# Altium footprint library Connector.PCBLIB: 82 footprints (part 4 of 6)
Each footprint in its own frame and in the unit in brackets; x right, y up, seen from the top. Pads: shape width x height; smd on the part's side, far side on the other; paste and mask are expansions set on the pad; w line width, h text height; cw(c..) or ccw(c..) is an arc to the next point about the centre after c.
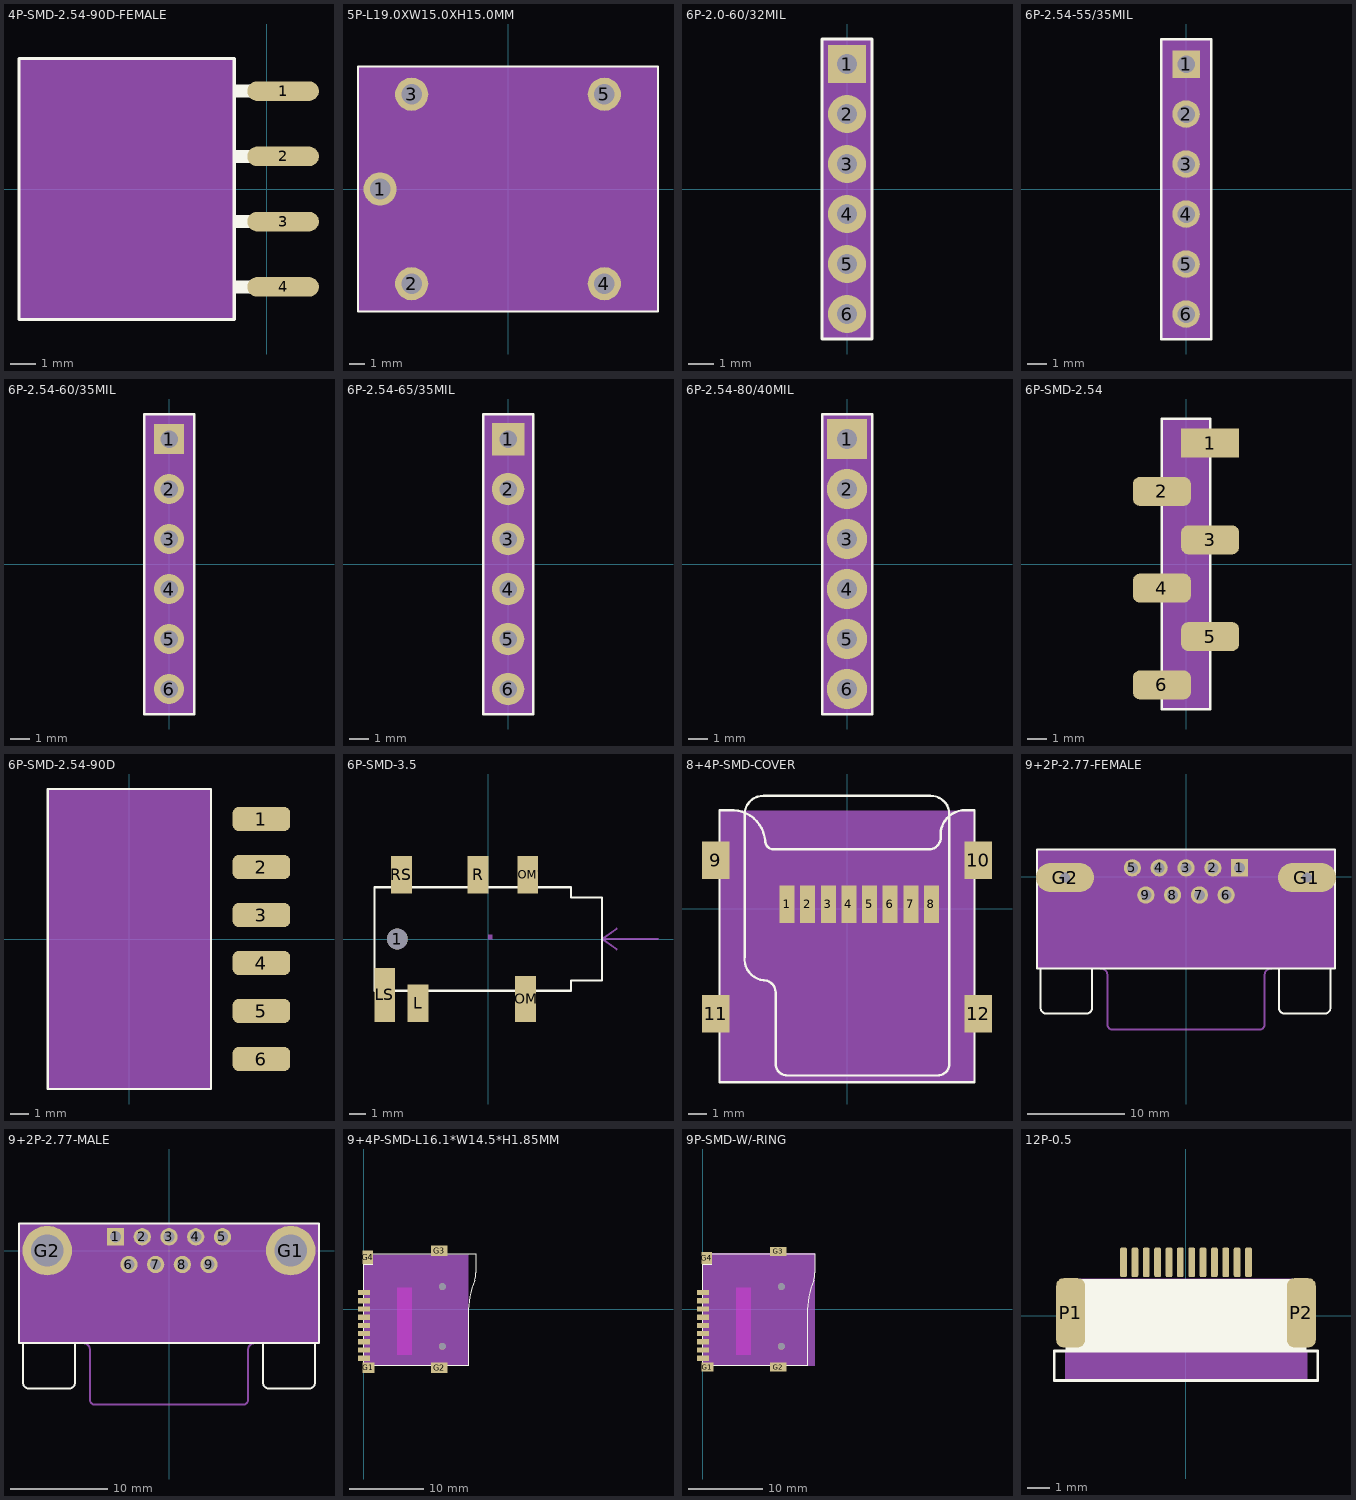
[diagram p3: the footprints below, top view; thin cyan lines are the x and y axes]

## 4P-SMD-2.54-90D-FEMALE [mil]
pads (4):
  rrect100% 110x30 smd: 1(25,150) 2(25,50) 3(25,-50) 4(25,-150)
Top Overlay:
  rectangle: -50,140 20,160
  rectangle: -50,40 20,60
  rectangle: -50,-60 20,-40
  rectangle: -50,-160 20,-140
  lines w5: -380,-200 -50,-200 -50,200 -380,200 -380,-200
Mechanical 27:
  rectangle: -380,-200 -50,200

## 5P-L19.0XW15.0XH15.0MM [mm]
pads (5):
  round 2.1 hole 1.3: 1(-8.1,0) 2(-6.1,-6) 3(-6.1,6) 4(6.1,-6) 5(6.1,6)
Top Overlay:
  lines w0.127: -9.5,-7.75 9.5,-7.75 9.5,7.75 -9.5,7.75 -9.5,-7.75
Mechanical 27:
  rectangle: -9.5,-7.75 9.5,7.75

## 6P-2.0-60/32MIL [mil]
pads (6):
  rect 60x60 hole 32: 1(0,196.85)
  round 60 hole 32: 2(0,118.11) 3(0,39.37) 4(0,-39.37) 5(0,-118.11) 6(0,-196.85)
Top Overlay:
  lines w5: -39.37,-236.18 39.37,-236.18 39.37,236.22 -39.37,236.22 -39.37,-236.18
Mechanical 27:
  rectangle: -40,-235 40,235

## 6P-2.54-55/35MIL [mil]
pads (6):
  rect 55x55 hole 35: 1(0,250)
  round 55 hole 35: 2(0,150) 3(0,50) 4(0,-50) 5(0,-150) 6(0,-250)
Top Overlay:
  lines w5: -50,-300 50,-300 50,300 -50,300 -50,-300
Mechanical 27:
  rectangle: -50,-300 50,300
  lines w0: -50,-300 50,-300 50,300 -50,300 -50,-300

## 6P-2.54-60/35MIL [mil]
pads (6):
  rect 60x60 hole 35: 1(0,250)
  round 60 hole 35: 2(0,150) 3(0,50) 4(0,-50) 5(0,-150) 6(0,-250)
Top Overlay:
  lines w5: -50,-300 50,-300 50,300 -50,300 -50,-300
Mechanical 27:
  rectangle: -50,-300 50,300
  lines w0: -50,-300 50,-300 50,300 -50,300 -50,-300

## 6P-2.54-65/35MIL [mil]
pads (6):
  rect 65x65 hole 35: 1(0,250)
  round 65 hole 35: 2(0,150) 3(0,50) 4(0,-50) 5(0,-150) 6(0,-250)
Top Overlay:
  lines w5: -50,-300 50,-300 50,300 -50,300 -50,-300
Mechanical 27:
  rectangle: -50,-300 50,300
  lines w0: -50,-300 50,-300 50,300 -50,300 -50,-300

## 6P-2.54-80/40MIL [mil]
pads (6):
  rect 80x80 hole 40: 1(0,250)
  round 80 hole 40: 2(0,150) 3(0,50) 4(0,-50) 5(0,-150) 6(0,-250)
Top Overlay:
  lines w5: -50,-300 50,-300 50,300 -50,300 -50,-300
Mechanical 27:
  rectangle: -50,-300 50,300

## 6P-SMD-2.54 [mil]
pads (6):
  rect 120x60 smd: 1(50,250)
  rrect50% 120x60 smd: 2(-50,150) 3(50,50) 4(-50,-50) 5(50,-150) 6(-50,-250)
Top Overlay:
  lines w5: -50,-300 50,-300 50,300 -50,300 -50,-300
Mechanical 27:
  rectangle: -50,-300 50,300

## 6P-SMD-2.54-90D [mil]
pads (6):
  rrect50% 120x50 smd: 1(275,250) 2(275,150) 3(275,50) 4(275,-50) 5(275,-150) 6(275,-250)
Top Overlay:
  lines w5: -170,-312.5 170,-312.5 170,312.5 -170,312.5 -170,-312.5
Mechanical 27:
  rectangle: -169.29,-311.02 169.29,311.02

## 6P-SMD-3.5 [mil]
pads (7):
  round 50 hole 50: 1(-220,0)
  rect 50x90 smd: COM1(95,155) L(-170,-155) R(-25,155) RS(-210,155)
  rect 50x110 smd: COM2(90,-145)
  rect 50x130 smd: LS(-250,-135)
Top Overlay:
  lines w5: -275,-125 -275,125 200,125 200,100 275,100 275,-100 200,-100 200,-125 -275,-125
Mechanical 11:
  region: 0,0 10,0 10,10 0,10
  lines w5: 310,-25 275,0 ; 310,25 275,0 ; 410,0 275,0
  text "The place have a bulge ," at 425,4.25 h54.25
  text "please place it out of board." at 425,-50 h54.25

## 8+4P-SMD-COVER [mil]
pads (12):
  rect 31.5x79.06 smd: 1(-125.92,10) 2(-82.61,10) 3(-39.31,10) 4(4,10) 5(47.31,10) 6(90.61,10) 7(133.92,10) 8(177.23,10)
  rect 57.09x78.74 smd: 9(-275.67,102.36) 10(275.67,102.36) 11(-275.67,-220.41) 12(275.67,-220.41)
Top Overlay:
  lines w5: -267.72,-363.94 267.72,-363.94 267.72,206.88 241.73,206.88 ccw(c247.73,156) 196.85,150 cw(c171.85,150) 171.85,125 -153.94,125 cw(c-153.94,142.91) -171.85,142.91 ccw(c-241.35,137.41) -246.85,206.91 -267.72,206.91 -267.72,-363.94 ; -215,-100 -215,200 cw(c-176.25,198.75) -175,237.5 175,237.5 cw(c176.25,198.75) 215,200 215,-325 cw(c190,-325) 190,-350 -125,-350 cw(c-125,-325) -150,-325 -150,-175 ccw(c-175,-175) -175,-150 cw(c-170,-105) -215,-100
Mechanical 27:
  rectangle: -267.72,-362.54 267.72,206.91

## 9+2P-2.77-FEMALE [mil]
pads (11):
  rect 70x70 hole 45: 1(218.11,35.43)
  round 70 hole 45: 2(109.06,35.43) 3(0,35.43) 4(-109.06,35.43) 5(-218.11,35.43) 6(163.58,-75.2) 7(54.53,-75.2) 8(-54.53,-75.2) 9(-163.58,-75.2)
  oval 236.22x118.11 hole 39.37: G1(492.13,-3.94) G2(-492.13,-3.94)
Top Overlay:
  lines w8: -591.97,-375 -591.97,-533 ccw(c-566.97,-533) -566.97,-558 -406.97,-558 ccw(c-406.97,-533) -381.97,-533 -381.97,-375 ; 378.03,-375 378.03,-533 ccw(c403.03,-533) 403.03,-558 563.03,-558 ccw(c563.03,-533) 588.03,-533 588.03,-375 ; -606.3,-374.02 -606.3,110.24 606.3,110.24 606.3,-374.02 -606.3,-374.02
Mechanical 11:
  lines w5: -515,-90 -500,-75 ; -485,-90 -500,-75 ; 485,-90 500,-75 ; 515,-90 500,-75 ; -500,-75 -500,-225 500,-225 500,-75
  lines w40: -566.93,-3.94 -417.32,-3.94 ; 417.32,-3.94 566.93,-3.94
  text "slot drills with copper" at -275,-215 h54.25
Mechanical 16:
  lines w8: -345,-374.02 cw(c-346.65,-400.67) -320,-402.32 -320,-602.32 ccw(c-300,-602.32) -300,-622.32 300,-622.32 ccw(c300,-602.32) 320,-602.32 320,-402.32 cw(c346.65,-400.67) 345,-374.02
Mechanical 27:
  rectangle: -605,-375 605,110

## 9+2P-2.77-MALE [mil]
pads (11):
  rect 70x70 hole 45: 1(-216,56)
  round 70 hole 45: 2(-108,56) 3(0,56) 4(108,56) 5(216,56) 6(-162,-56) 7(-54,-56) 8(54,-56) 9(162,-56)
  round 200 hole 130: G1(492,0) G2(-492,0)
Top Overlay:
  lines w8: -590,-375 -590,-533 ccw(c-565,-533) -565,-558 -405,-558 ccw(c-405,-533) -380,-533 -380,-375 ; 380,-375 380,-533 ccw(c405,-533) 405,-558 565,-558 ccw(c565,-533) 590,-533 590,-375 ; -606.3,-374.02 -606.3,110.24 606.3,110.24 606.3,-374.02 -606.3,-374.02
Mechanical 16:
  lines w8: -345,-374.02 cw(c-346.65,-400.67) -320,-402.32 -320,-602.32 ccw(c-300,-602.32) -300,-622.32 300,-622.32 ccw(c300,-602.32) 320,-602.32 320,-402.32 cw(c346.65,-400.67) 345,-374.02
Mechanical 27:
  rectangle: -605,-375 605,110

## 9+4P-SMD-L16.1*W14.5*H1.85MM [mm]
pads (15):
  rect 1.6x0.7 smd: 1(0,2.25) 2(0,1.15) 3(0,0.05) 4(0,-1.05) 5(0,-2.15) 6(0,-3.25) 7(0,-4.35) 8(0,-5.45) 9(0,-6.55)
  round 0.9 hole 0.9: 1(10.5,-4.95) 1(10.5,3.05)
  rect 1.6x1.4 smd: G1(0.6,-7.85)
  rect 2.2x1.4 smd: G2(10.1,-7.85) G3(10.1,7.85)
  rect 1.4x1.8 smd: G4(0.5,6.95)
Top Overlay:
  lines w0.127: 0,-7.557 13.97,-7.557 13.97,-0.623 cw(c26.67,-0.623) 14.802,3.898 ccw(c12.177,4.898) 14.986,4.898 14.986,7.429 1.143,7.429 1.143,6.032 0,6.032 0,-7.557
Mechanical 8 keep-out:
  rectangle: 4.4,-6.1 6.4,2.9
Mechanical 27:
  rectangle: 0,-7.493 13.97,7.366

## 9P-SMD-W/-RING [mm]
pads (15):
  rect 1.6x0.7 smd: 1(0,2.25) 2(0,1.15) 3(0,0.05) 4(0,-1.05) 5(0,-2.15) 6(0,-3.25) 7(0,-4.35) 8(0,-5.45) 9(0,-6.55)
  round 0.9 hole 0.9: 1(10.5,-4.95) 1(10.5,3.05)
  rect 1.6x1.2 smd: G1(0.6,-7.75)
  rect 2.2x1.2 smd: G2(10.1,-7.75) G3(10.1,7.75)
  rect 1.4x1.6 smd: G4(0.5,6.85)
Top Overlay:
  lines w0.127: 0,-7.557 13.97,-7.557 13.97,-0.623 cw(c26.67,-0.623) 14.802,3.898 ccw(c12.177,4.898) 14.986,4.898 14.986,7.429 1.143,7.429 1.143,6.032 0,6.032 0,-7.557
Mechanical 8 keep-out:
  rectangle: 4.4,-6.1 6.4,2.9
Mechanical 27:
  rectangle: 0,-7.557 14.986,7.557

## 12P-0.5 [mm]
pads (14):
  rrect50% 0.3x1.3 smd: 1(-2.75,2.35) 2(-2.25,2.35) 3(-1.75,2.35) 4(-1.25,2.35) 5(-0.75,2.35) 6(-0.25,2.35) 7(0.25,2.35) 8(0.75,2.35) 9(1.25,2.35) 10(1.75,2.35) 11(2.25,2.35) 12(2.75,2.35)
  rrect50% 1.27x3.048 smd: P1(-5.08,0.127) P2(5.08,0.127)
Top Overlay:
  rectangle: -5.207,-1.524 5.207,1.524
  lines w0.127: -5.25,-1.55 -5.8,-1.55 -5.8,-2.85 5.8,-2.85 5.8,-1.55 5.25,-1.55 ; -5.25,-1.55 5.25,-1.55 ; -5.25,-1.55 -5.25,1.55 5.25,1.55 5.25,-1.55
Mechanical 27:
  rectangle: -4.687,-1.409 4.711,1.639
  rectangle: -5.322,-2.806 5.346,-1.536